# Altium footprint library Connector_Stocko.PcbLib: 20 footprints (part 2 of 2)
Each footprint in its own frame and in the unit in brackets; x right, y up, seen from the top. Pads: shape width x height; smd on the part's side, far side on the other; paste and mask are expansions set on the pad; w line width, h text height; cw(c..) or ccw(c..) is an arc to the next point about the centre after c.
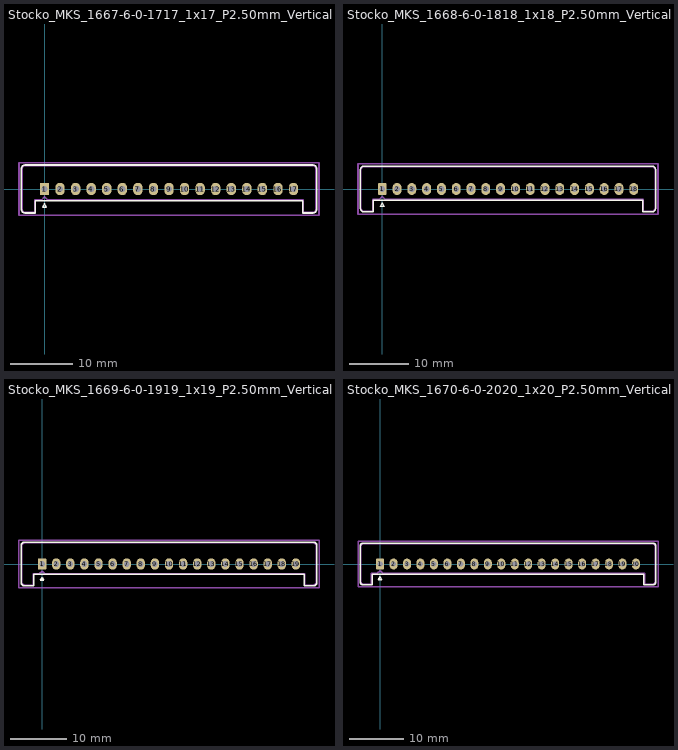
[diagram p1: the footprints below, top view; thin cyan lines are the x and y axes]

## Stocko_MKS_1667-6-0-1717_1x17_P2.50mm_Vertical [mm]
pads (17):
  rrect25% 1.5x2 hole 1: 1(0,0)
  rrect100% 1.5x2 hole 1: 2(2.5,0) 3(5,0) 4(7.5,0) 5(10,0) 6(12.5,0) 7(15,0) 8(17.5,0) 9(20,0) 10(22.5,0) 11(25,0) 12(27.5,0) 13(30,0) 14(32.5,0) 15(35,0) 16(37.5,0) 17(40,0)
F.SilkS:
  lines w0.254: -3.71,-3.25 ccw(c-3.1,-3.25) -3.1,-3.86 -1.49,-3.86 -1.49,-1.86 41.49,-1.86 41.49,-3.86 43.1,-3.86 ccw(c43.1,-3.25) 43.71,-3.25 43.71,3.25 ccw(c43.1,3.25) 43.1,3.86 -3.1,3.86 ccw(c-3.1,3.25) -3.71,3.25 -3.71,-3.25 ; -0.3,-2.9 0,-2.4 0.3,-2.9 -0.3,-2.9
Top Assembly:
  lines w0.254: -3.6,-3.25 ccw(c-3.1,-3.25) -3.1,-3.75 -1.6,-3.75 -1.6,-1.75 -0.5,-1.75 0,-1.25 0.5,-1.75 41.6,-1.75 41.6,-3.75 43.1,-3.75 ccw(c43.1,-3.25) 43.6,-3.25 43.6,3.25 ccw(c43.1,3.25) 43.1,3.75 -3.1,3.75 ccw(c-3.1,3.25) -3.6,3.25 -3.6,-3.25
  text "'.Designator'" at 15.953,1.16 h1
Top Courtyard:
  lines w0.254: -4.1,-4.25 44.1,-4.25 44.1,4.25 -4.1,4.25 -4.1,-4.25
Top Designator:
  text ".Designator" at 12.382,-0.508 h1.52

## Stocko_MKS_1668-6-0-1818_1x18_P2.50mm_Vertical [mm]
pads (18):
  rrect25% 1.5x2 hole 1: 1(0,0)
  rrect100% 1.5x2 hole 1: 2(2.5,0) 3(5,0) 4(7.5,0) 5(10,0) 6(12.5,0) 7(15,0) 8(17.5,0) 9(20,0) 10(22.5,0) 11(25,0) 12(27.5,0) 13(30,0) 14(32.5,0) 15(35,0) 16(37.5,0) 17(40,0) 18(42.5,0)
F.SilkS:
  lines w0.254: -3.71,-3.25 ccw(c-3.1,-3.25) -3.1,-3.86 -1.49,-3.86 -1.49,-1.86 43.99,-1.86 43.99,-3.86 45.6,-3.86 ccw(c45.6,-3.25) 46.21,-3.25 46.21,3.25 ccw(c45.6,3.25) 45.6,3.86 -3.1,3.86 ccw(c-3.1,3.25) -3.71,3.25 -3.71,-3.25 ; -0.3,-2.9 0,-2.4 0.3,-2.9 -0.3,-2.9
Top Assembly:
  lines w0.254: -3.6,-3.25 ccw(c-3.1,-3.25) -3.1,-3.75 -1.6,-3.75 -1.6,-1.75 -0.5,-1.75 0,-1.25 0.5,-1.75 44.1,-1.75 44.1,-3.75 45.6,-3.75 ccw(c45.6,-3.25) 46.1,-3.25 46.1,3.25 ccw(c45.6,3.25) 45.6,3.75 -3.1,3.75 ccw(c-3.1,3.25) -3.6,3.25 -3.6,-3.25
  text "'.Designator'" at 17.203,1.16 h1
Top Courtyard:
  lines w0.254: -4.1,-4.25 46.6,-4.25 46.6,4.25 -4.1,4.25 -4.1,-4.25
Top Designator:
  text ".Designator" at 13.632,-0.508 h1.52

## Stocko_MKS_1669-6-0-1919_1x19_P2.50mm_Vertical [mm]
pads (19):
  rrect25% 1.5x2 hole 1: 1(0,0)
  rrect100% 1.5x2 hole 1: 2(2.5,0) 3(5,0) 4(7.5,0) 5(10,0) 6(12.5,0) 7(15,0) 8(17.5,0) 9(20,0) 10(22.5,0) 11(25,0) 12(27.5,0) 13(30,0) 14(32.5,0) 15(35,0) 16(37.5,0) 17(40,0) 18(42.5,0) 19(45,0)
F.SilkS:
  lines w0.254: -3.71,-3.25 ccw(c-3.1,-3.25) -3.1,-3.86 -1.49,-3.86 -1.49,-1.86 46.49,-1.86 46.49,-3.86 48.1,-3.86 ccw(c48.1,-3.25) 48.71,-3.25 48.71,3.25 ccw(c48.1,3.25) 48.1,3.86 -3.1,3.86 ccw(c-3.1,3.25) -3.71,3.25 -3.71,-3.25 ; -0.3,-2.9 0,-2.4 0.3,-2.9 -0.3,-2.9
Top Assembly:
  lines w0.254: -3.6,-3.25 ccw(c-3.1,-3.25) -3.1,-3.75 -1.6,-3.75 -1.6,-1.75 -0.5,-1.75 0,-1.25 0.5,-1.75 46.6,-1.75 46.6,-3.75 48.1,-3.75 ccw(c48.1,-3.25) 48.6,-3.25 48.6,3.25 ccw(c48.1,3.25) 48.1,3.75 -3.1,3.75 ccw(c-3.1,3.25) -3.6,3.25 -3.6,-3.25
  text "'.Designator'" at 18.453,1.16 h1
Top Courtyard:
  lines w0.254: -4.1,-4.25 49.1,-4.25 49.1,4.25 -4.1,4.25 -4.1,-4.25
Top Designator:
  text ".Designator" at 14.882,-0.508 h1.52

## Stocko_MKS_1670-6-0-2020_1x20_P2.50mm_Vertical [mm]
pads (20):
  rrect25% 1.5x2 hole 1: 1(0,0)
  rrect100% 1.5x2 hole 1: 2(2.5,0) 3(5,0) 4(7.5,0) 5(10,0) 6(12.5,0) 7(15,0) 8(17.5,0) 9(20,0) 10(22.5,0) 11(25,0) 12(27.5,0) 13(30,0) 14(32.5,0) 15(35,0) 16(37.5,0) 17(40,0) 18(42.5,0) 19(45,0) 20(47.5,0)
F.SilkS:
  lines w0.254: -3.71,-3.25 ccw(c-3.1,-3.25) -3.1,-3.86 -1.49,-3.86 -1.49,-1.86 48.99,-1.86 48.99,-3.86 50.6,-3.86 ccw(c50.6,-3.25) 51.21,-3.25 51.21,3.25 ccw(c50.6,3.25) 50.6,3.86 -3.1,3.86 ccw(c-3.1,3.25) -3.71,3.25 -3.71,-3.25 ; -0.3,-2.9 0,-2.4 0.3,-2.9 -0.3,-2.9
Top Assembly:
  lines w0.254: -3.6,-3.25 ccw(c-3.1,-3.25) -3.1,-3.75 -1.6,-3.75 -1.6,-1.75 -0.5,-1.75 0,-1.25 0.5,-1.75 49.1,-1.75 49.1,-3.75 50.6,-3.75 ccw(c50.6,-3.25) 51.1,-3.25 51.1,3.25 ccw(c50.6,3.25) 50.6,3.75 -3.1,3.75 ccw(c-3.1,3.25) -3.6,3.25 -3.6,-3.25
  text "'.Designator'" at 19.703,1.16 h1
Top Courtyard:
  lines w0.254: -4.1,-4.25 51.6,-4.25 51.6,4.25 -4.1,4.25 -4.1,-4.25
Top Designator:
  text ".Designator" at 16.132,-0.508 h1.52